# EAGLE library part 50PINFPC (library FPC)
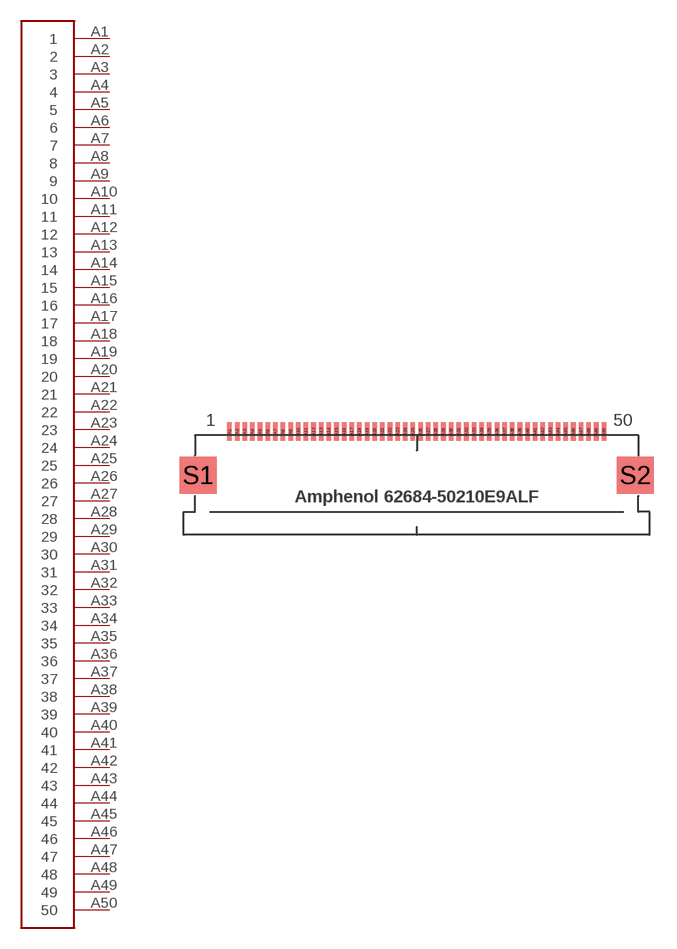
[diagram p0: symbol with the pads of 62684-501100ALF; footprint 62684-501100ALF]

Designator prefix -

## 50PINFPC  [62684-501100ALF]
A1  1
A2  2
A3  3
A4  4
A5  5
A6  6
A7  7
A8  8
A9  9
A10  10
A11  11
A12  12
A13  13
A14  14
A15  15
A16  16
A17  17
A18  18
A19  19
A20  20
A21  21
A22  22
A23  23
A24  24
A25  25
A26  26
A27  27
A28  28
A29  29
A30  30
A31  31
A32  32
A33  33
A34  34
A35  35
A36  36
A37  37
A38  38
A39  39
A40  40
A41  41
A42  42
A43  43
A44  44
A45  45
A46  46
A47  47
A48  48
A49  49
A50  50

## Footprint 62684-501100ALF (pad centres in mm)
smd 0.3 x 1.2: A1 -12.25,0.25; A2 -11.75,0.25; A3 -11.25,0.25; A4 -10.75,0.25; A5 -10.25,0.25; A6 -9.75,0.25; A7 -9.25,0.25; A8 -8.75,0.25; A9 -8.25,0.25; A10 -7.75,0.25; A11 -7.25,0.25; A12 -6.75,0.25; A13 -6.25,0.25; A14 -5.75,0.25; A15 -5.25,0.25; A16 -4.75,0.25; A17 -4.25,0.25; A18 -3.75,0.25; A19 -3.25,0.25; A20 -2.75,0.25; A21 -2.25,0.25; A22 -1.75,0.25; A23 -1.25,0.25; A24 -0.75,0.25; A25 -0.25,0.25; A26 0.25,0.25; A27 0.75,0.25; A28 1.25,0.25; A29 1.75,0.25; A30 2.25,0.25; A31 2.75,0.25; A32 3.25,0.25; A33 3.75,0.25; A34 4.25,0.25; A35 4.75,0.25; A36 5.25,0.25; A37 5.75,0.25; A38 6.25,0.25; A39 6.75,0.25; A40 7.25,0.25; A41 7.75,0.25; A42 8.25,0.25; A43 8.75,0.25; A44 9.25,0.25; A45 9.75,0.25; A46 10.25,0.25; A47 10.75,0.25; A48 11.25,0.25; A49 11.75,0.25; A50 12.25,0.25
smd 2.4 x 2.4: S1 -14.3,-2.6; S2 14.3,-2.6